# EAGLE library part 2NBS16-15E (library resistor-bourns)
BOURNS RESISTOR NETWORK
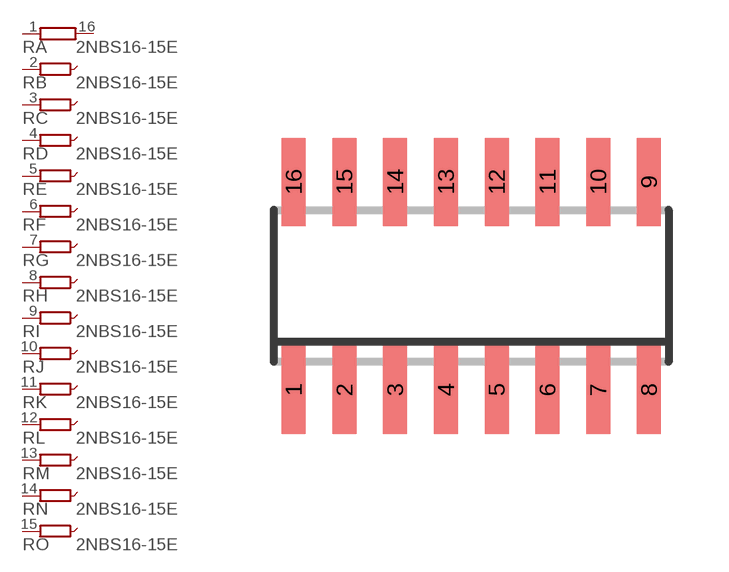
[diagram p3: symbol with the pads of SO16; footprint SO16]

Designator prefix R; gates A=R1NV B=R1NVXX C=R1NVXX D=R1NVXX E=R1NVXX F=R1NVXX G=R1NVXX H=R1NVXX I=R1NVXX J=R1NVXX K=R1NVXX L=R1NVXX M=R1NVXX N=R1NVXX O=R1NVXX

## 2NBS16-15E (OC_FARNELL: unknown; OC_NEWARK: unknown)  [SO16]
1  A:1  pas
2  B:1  pas
3  C:1  pas
4  D:1  pas
5  E:1  pas
6  F:1  pas
7  G:1  pas
8  H:1  pas
9  I:1  pas
10  J:1  pas
11  K:1  pas
12  L:1  pas
13  M:1  pas
14  N:1  pas
15  O:1  pas
16  A:2  pas

## Footprint SO16 (pad centres in mm)
BOURNS RESISTOR NETWORK
smd 0.6 x 2.2: 1 -4.445,-2.6; 2 -3.175,-2.6; 3 -1.905,-2.6; 4 -0.635,-2.6; 5 0.635,-2.6; 6 1.905,-2.6; 7 3.175,-2.6; 8 4.445,-2.6; 9 4.445,2.6; 10 3.175,2.6; 11 1.905,2.6; 12 0.635,2.6; 13 -0.635,2.6; 14 -1.905,2.6; 15 -3.175,2.6; 16 -4.445,2.6